# Altium schematic symbol library SMD1206P025TF.Schlib: 1 symbol
Pins are listed as number, name and electrical type; pins without a type are passive.

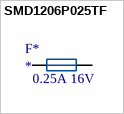
[diagram p0: symbol SMD1206P025TF]

## SMD1206P025TF
designator F*  value 0.25A 16V
PTC RESETTABLE FUSES 1206 ROHS; ComponentLink1Description: LCSC - RUILON(Shenzhen Ruilongyuan Elec) SMD1206P025TF; ComponentLink1URL: https://lcsc.com/product-detail/Surface-Mount-Fuses_0-25A-Self-healing-type_C20798.html/?href=jlc-SMT; LCSC Part #: C20798; JLCPCB Part Type: Extended
footprint CH1206R (Chip Resistor, EIA 1206, Metric 3216, Body 3.2x1.6mm, IPC Medium Density)
pins: 1, 2